# Altium integrated library Linear Technology Power Management Energy Harvesting.IntLib: 169 symbols (part 3 of 13)
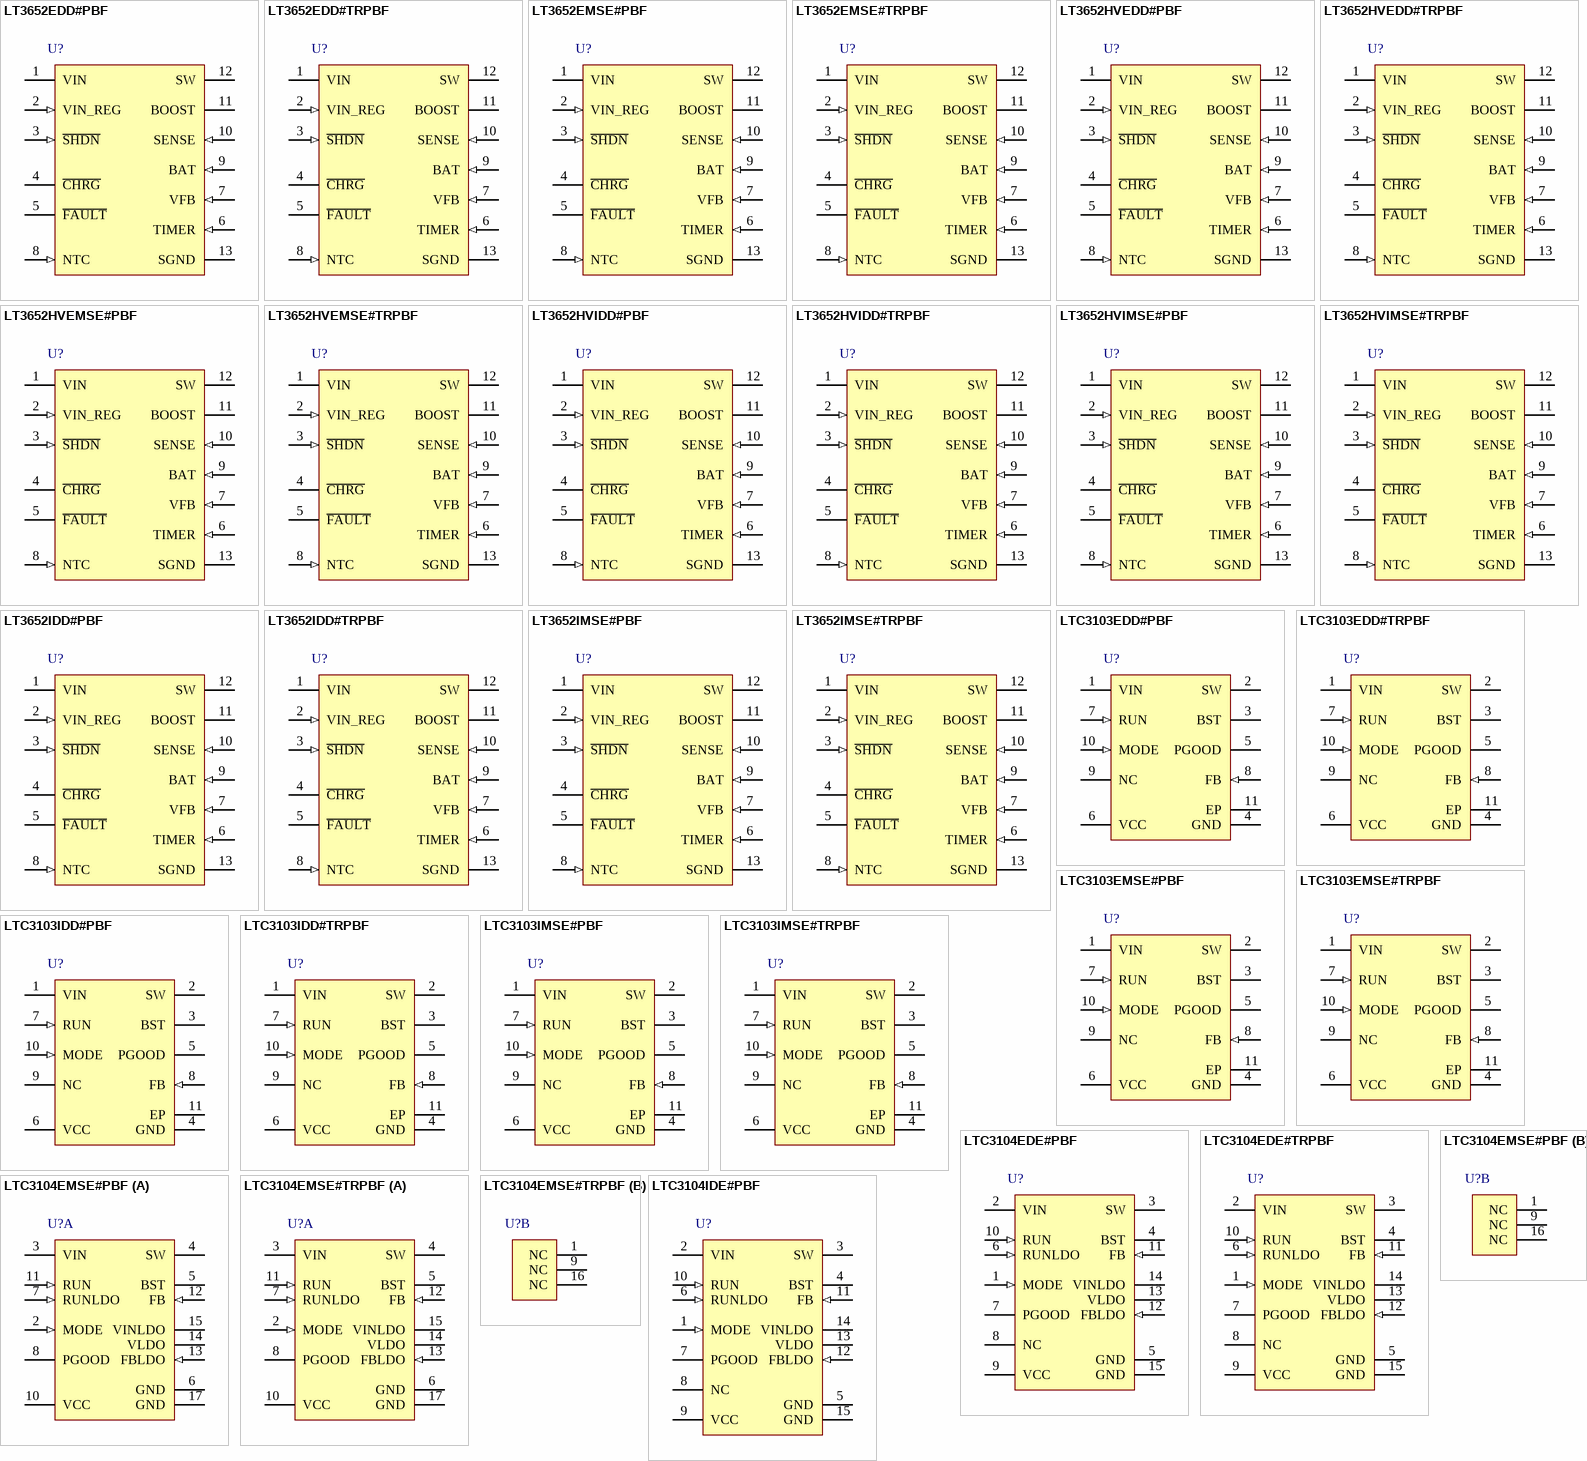
[diagram p7: symbols LT3652EDD#PBF to LTC3104IDE#PBF]

## LTC3104EDE#PBF
designator U?
2.6 uA Quiescent Current, 15 V, 300 mA Synchronous Step-Down DC/DC Converter and 10 mA LDO, 14-pin SON (DE-14), -40 to 125 degC, Pb-Free; Manufacturer: Linear Technology; PartNumber: LTC3104EDE#PBF; Number of Outputs: 2; Topology: Buck, LDO; Vin Max(V): 15; Vin Min(V): 2.5; Vout Max(V): 13.8; PackageVersion: Rev. B, 06/2010; PackageReference: DE-14; PackageDescription: 14-Pin Plastic DFN, Body 4 x 3 mm, Pitch 0.5 mm; Supplier 1: Digi-Key; Supplier Part Number 1: LTC3104EDE#PBF-ND; Supplier 2: Newark; Supplier Part Number 2: 78T3149; RoHS: TRUE; Mounting Technology: Surface Mount; Code_JEDEC: MO-229; ComponentLink1Description: Manufacturer URL; ComponentLink1URL: http://www.linear.com/; ComponentLink2Description: Datasheet; ComponentLink2URL: http://cds.linear.com/docs/en/datasheet/3104f.pdf; ComponentLink3Description: Package Specification; ComponentLink3URL: http://www.linear.com/docs/en/packaging/DFN_14_05-08-1708.pdf
footprint LT-DE-14_V (SON, 14-Leads, Body 4x3mm, Pitch 0.5mm, Thermal Pad 3.3x1.7mm)
pins: 1 MODE (in) "MODE (Pin 1/Pin 2): Logic-Controlled Input to Select Mode of Operation. Forcing this pin high commands high efficiency automatic Burst Mode operation where the buck will automatically transition from PWM operation at heavy (See Datasheet)", 2 VIN (power) "VIN (Pin 2/Pin 3): Main Supply Pin. Decouple with a 10uF or larger ceramic capacitor. The capacitor should be as close to the part as possible.", 3 SW (power) "SW (Pin 3/Pin 4): Switch Pin Connects to the Inductor. This pin connects to the drains of the internal main and synchronous power MOSFET switches.", 4 BST "BST (Pin 4/Pin 5): Bootstrapped Floating Supply for High Side Gate Drive. Connect to SW through a 22nF (minimum) capacitor. The capacitor must be connected between BST and SW and be located as close as possible to the part (See Datasheet)", 5 GND (power) "GND (Pin 5/Pin 6): Power Ground.", 6 RUNLDO (in) "RUNLDO (Pin 6/Pin 7): Logic-Controlled LDO Enable Pin. This pin may be tied to VIN to enable the LDO.", 7 PGOOD (oc) "PGOOD (Pin 7/Pin 8): Open-drain output that is pulled to ground when the feedback voltage falls 10% (typical) below the regulation point, during a thermal shutdown event or if the converter is disabled. The PGOOD output is (See Datasheet)", 8 NC "NC (Pin 8/Pins 1, 9, 16): No Connect Pin(s) Must Be Tied to GND.", 9 VCC (power) "VCC (Pin 9/Pin 10): Internally Regulated Supply Rail. Internal power rail regulated off of VIN to power control circuitry. Decouple with a 1uF or larger ceramic capacitor placed as close to the part as possible.", 10 RUN (in) "RUN (Pin 10/Pin 11): Run Pin Comparator Input. A voltage greater than 0.84V will enable the IC. Tie this pin to VIN to enable the IC or connect to an external resistor divider from VIN to provide an accurate undervoltage (See Datasheet)", 11 FB (in) "FB (Pin 11/Pin 12): Feedback Input to Error Amplifier. The resistor divider connected to this pin sets the buck converter output voltage.", 12 FBLDO (in) "FBLDO (Pin 12/Pin 13): Feedback Input to the LDO Error Amplifier. The resistor divider on this pin sets the LDO output voltage.", 13 VLDO (power) "VLDO (Pin 13/Pin 14): LDO Regulator Output. Decouple with a 4.7uF or larger ceramic capacitor placed as close to the part as possible.", 14 VINLDO (power) "VINLDO (Pin 14/Pin 15): LDO Supply Pin (15V Maximum). Decouple with a 10uF or larger ceramic capacitor.", 15 GND (power) "GND (Exposed Pad Pin 15/Exposed Pad Pin 17): Backpad Ground Common. This pad must be soldered to the PC board and connected to the ground plane for optimal thermal performance."

## LTC3104EDE#TRPBF
designator U?
2.6 uA Quiescent Current, 15 V, 300 mA Synchronous Step-Down DC/DC Converter and 10 mA LDO, 14-pin SON (DE-14), -40 to 125 degC, Pb-Free, Tape and Reel; Manufacturer: Linear Technology; PartNumber: LTC3104EDE#TRPBF; Number of Outputs: 2; Topology: Buck, LDO; Vin Max(V): 15; Vin Min(V): 2.5; Vout Max(V): 13.8; PackageVersion: Rev. B, 06/2010; PackageReference: DE-14; PackageDescription: 14-Pin Plastic DFN, Body 4 x 3 mm, Pitch 0.5 mm; Supplier 1: Digi-Key; Supplier Part Number 1: LTC3104EDE#TRPBF-ND; Packing: Tape and Reel; RoHS: TRUE; Mounting Technology: Surface Mount; Code_JEDEC: MO-229; ComponentLink1Description: Manufacturer URL; ComponentLink1URL: http://www.linear.com/; ComponentLink2Description: Datasheet; ComponentLink2URL: http://cds.linear.com/docs/en/datasheet/3104f.pdf; ComponentLink3Description: Package Specification; ComponentLink3URL: http://www.linear.com/docs/en/packaging/DFN_14_05-08-1708.pdf
footprint LT-DE-14_V (SON, 14-Leads, Body 4x3mm, Pitch 0.5mm, Thermal Pad 3.3x1.7mm)
pins: 1 MODE (in) "MODE (Pin 1/Pin 2): Logic-Controlled Input to Select Mode of Operation. Forcing this pin high commands high efficiency automatic Burst Mode operation where the buck will automatically transition from PWM operation at heavy (See Datasheet)", 2 VIN (power) "VIN (Pin 2/Pin 3): Main Supply Pin. Decouple with a 10uF or larger ceramic capacitor. The capacitor should be as close to the part as possible.", 3 SW (power) "SW (Pin 3/Pin 4): Switch Pin Connects to the Inductor. This pin connects to the drains of the internal main and synchronous power MOSFET switches.", 4 BST "BST (Pin 4/Pin 5): Bootstrapped Floating Supply for High Side Gate Drive. Connect to SW through a 22nF (minimum) capacitor. The capacitor must be connected between BST and SW and be located as close as possible to the part (See Datasheet)", 5 GND (power) "GND (Pin 5/Pin 6): Power Ground.", 6 RUNLDO (in) "RUNLDO (Pin 6/Pin 7): Logic-Controlled LDO Enable Pin. This pin may be tied to VIN to enable the LDO.", 7 PGOOD (oc) "PGOOD (Pin 7/Pin 8): Open-drain output that is pulled to ground when the feedback voltage falls 10% (typical) below the regulation point, during a thermal shutdown event or if the converter is disabled. The PGOOD output is (See Datasheet)", 8 NC "NC (Pin 8/Pins 1, 9, 16): No Connect Pin(s) Must Be Tied to GND.", 9 VCC (power) "VCC (Pin 9/Pin 10): Internally Regulated Supply Rail. Internal power rail regulated off of VIN to power control circuitry. Decouple with a 1uF or larger ceramic capacitor placed as close to the part as possible.", 10 RUN (in) "RUN (Pin 10/Pin 11): Run Pin Comparator Input. A voltage greater than 0.84V will enable the IC. Tie this pin to VIN to enable the IC or connect to an external resistor divider from VIN to provide an accurate undervoltage (See Datasheet)", 11 FB (in) "FB (Pin 11/Pin 12): Feedback Input to Error Amplifier. The resistor divider connected to this pin sets the buck converter output voltage.", 12 FBLDO (in) "FBLDO (Pin 12/Pin 13): Feedback Input to the LDO Error Amplifier. The resistor divider on this pin sets the LDO output voltage.", 13 VLDO (power) "VLDO (Pin 13/Pin 14): LDO Regulator Output. Decouple with a 4.7uF or larger ceramic capacitor placed as close to the part as possible.", 14 VINLDO (power) "VINLDO (Pin 14/Pin 15): LDO Supply Pin (15V Maximum). Decouple with a 10uF or larger ceramic capacitor.", 15 GND (power) "GND (Exposed Pad Pin 15/Exposed Pad Pin 17): Backpad Ground Common. This pad must be soldered to the PC board and connected to the ground plane for optimal thermal performance."

## LTC3104EMSE#PBF
designator U?
2.6 uA Quiescent Current, 15 V, 300 mA Synchronous Step-Down DC/DC Converter and 10 mA LDO, 16-pin SOP (MSE-16-EDP), -40 to 125 degC, Pb-Free; Manufacturer: Linear Technology; PartNumber: LTC3104EMSE#PBF; Number of Outputs: 2; Topology: Buck, LDO; Vin Max(V): 15; Vin Min(V): 2.5; Vout Max(V): 13.8; PackageVersion: Rev. F, 05/2013; PackageReference: MSE-16; PackageDescription: 16-Pin Plastic MSOP, Exposed Die Pad, Body 4.039 x 3 mm, Pitch 0.5 mm; Supplier 1: Digi-Key; Supplier Part Number 1: LTC3104EMSE#PBF-ND; Supplier 2: Farnell; Supplier Part Number 2: 2097888; RoHS: TRUE; Mounting Technology: Surface Mount; ComponentLink1Description: Manufacturer URL; ComponentLink1URL: http://www.linear.com/; ComponentLink2Description: Datasheet; ComponentLink2URL: http://cds.linear.com/docs/en/datasheet/3104f.pdf; ComponentLink3Description: Package Specification; ComponentLink3URL: http://cds.linear.com/docs/en/packaging/05081667_F_MSE16.pdf
footprint LT-MSE-16-EDP_N (SOP, 16-Leads, Body 4.1x3.1mm, Pitch 0.5mm, Thermal Pad 2.95x1.76mm, IPC Medium Density)
footprint LT-MSE-16-EDP_L (SOP, 16-Leads, Body 4.1x3.1mm, Pitch 0.5mm, Thermal Pad 2.95x1.76mm, IPC High Density)
footprint LT-MSE-16-EDP_M (SOP, 16-Leads, Body 4.1x3.1mm, Pitch 0.5mm, Thermal Pad 2.95x1.76mm, IPC Low Density)
part A pins: 2 MODE (in) "MODE (Pin 1/Pin 2): Logic-Controlled Input to Select Mode of Operation. Forcing this pin high commands high efficiency automatic Burst Mode operation where the buck will automatically transition from PWM operation at heavy (See Datasheet)", 3 VIN (power) "VIN (Pin 2/Pin 3): Main Supply Pin. Decouple with a 10uF or larger ceramic capacitor. The capacitor should be as close to the part as possible.", 4 SW (power) "SW (Pin 3/Pin 4): Switch Pin Connects to the Inductor. This pin connects to the drains of the internal main and synchronous power MOSFET switches.", 5 BST "BST (Pin 4/Pin 5): Bootstrapped Floating Supply for High Side Gate Drive. Connect to SW through a 22nF (minimum) capacitor. The capacitor must be connected between BST and SW and be located as close as possible to the part (See Datasheet)", 6 GND (power) "GND (Pin 5/Pin 6): Power Ground.", 7 RUNLDO (in) "RUNLDO (Pin 6/Pin 7): Logic-Controlled LDO Enable Pin. This pin may be tied to VIN to enable the LDO.", 8 PGOOD (oc) "PGOOD (Pin 7/Pin 8): Open-drain output that is pulled to ground when the feedback voltage falls 10% (typical) below the regulation point, during a thermal shutdown event or if the converter is disabled. The PGOOD output is (See Datasheet)", 10 VCC (power) "VCC (Pin 9/Pin 10): Internally Regulated Supply Rail. Internal power rail regulated off of VIN to power control circuitry. Decouple with a 1uF or larger ceramic capacitor placed as close to the part as possible.", 11 RUN (in) "RUN (Pin 10/Pin 11): Run Pin Comparator Input. A voltage greater than 0.84V will enable the IC. Tie this pin to VIN to enable the IC or connect to an external resistor divider from VIN to provide an accurate undervoltage (See Datasheet)", 12 FB (in) "FB (Pin 11/Pin 12): Feedback Input to Error Amplifier. The resistor divider connected to this pin sets the buck converter output voltage.", 13 FBLDO (in) "FBLDO (Pin 12/Pin 13): Feedback Input to the LDO Error Amplifier. The resistor divider on this pin sets the LDO output voltage.", 14 VLDO (power) "VLDO (Pin 13/Pin 14): LDO Regulator Output. Decouple with a 4.7uF or larger ceramic capacitor placed as close to the part as possible.", 15 VINLDO (power) "VINLDO (Pin 14/Pin 15): LDO Supply Pin (15V Maximum). Decouple with a 10uF or larger ceramic capacitor.", 17 GND (power) "GND (Exposed Pad Pin 15/Exposed Pad Pin 17): Backpad Ground Common. This pad must be soldered to the PC board and connected to the ground plane for optimal thermal performance."
part B pins: 1 NC "NC (Pin 8/Pins 1, 9, 16): No Connect Pin(s) Must Be Tied to GND.", 9 NC "NC (Pin 8/Pins 1, 9, 16): No Connect Pin(s) Must Be Tied to GND.", 16 NC "NC (Pin 8/Pins 1, 9, 16): No Connect Pin(s) Must Be Tied to GND."

## LTC3104EMSE#TRPBF
designator U?
2.6 uA Quiescent Current, 15 V, 300 mA Synchronous Step-Down DC/DC Converter and 10 mA LDO, 16-pin SOP (MSE-16-EDP), -40 to 125 degC, Pb-Free, Tape and Reel; Manufacturer: Linear Technology; PartNumber: LTC3104EMSE#TRPBF; Number of Outputs: 2; Topology: Buck, LDO; Vin Max(V): 15; Vin Min(V): 2.5; Vout Max(V): 13.8; PackageVersion: Rev. F, 05/2013; PackageReference: MSE-16; PackageDescription: 16-Pin Plastic MSOP, Exposed Die Pad, Body 4.039 x 3 mm, Pitch 0.5 mm; Supplier 1: Digi-Key; Supplier Part Number 1: LTC3104EMSE#TRPBF-ND; Packing: Tape and Reel; RoHS: TRUE; Mounting Technology: Surface Mount; ComponentLink1Description: Manufacturer URL; ComponentLink1URL: http://www.linear.com/; ComponentLink2Description: Datasheet; ComponentLink2URL: http://cds.linear.com/docs/en/datasheet/3104f.pdf; ComponentLink3Description: Package Specification; ComponentLink3URL: http://cds.linear.com/docs/en/packaging/05081667_F_MSE16.pdf
footprint LT-MSE-16-EDP_N (SOP, 16-Leads, Body 4.1x3.1mm, Pitch 0.5mm, Thermal Pad 2.95x1.76mm, IPC Medium Density)
footprint LT-MSE-16-EDP_L (SOP, 16-Leads, Body 4.1x3.1mm, Pitch 0.5mm, Thermal Pad 2.95x1.76mm, IPC High Density)
footprint LT-MSE-16-EDP_M (SOP, 16-Leads, Body 4.1x3.1mm, Pitch 0.5mm, Thermal Pad 2.95x1.76mm, IPC Low Density)
part A pins: 2 MODE (in) "MODE (Pin 1/Pin 2): Logic-Controlled Input to Select Mode of Operation. Forcing this pin high commands high efficiency automatic Burst Mode operation where the buck will automatically transition from PWM operation at heavy (See Datasheet)", 3 VIN (power) "VIN (Pin 2/Pin 3): Main Supply Pin. Decouple with a 10uF or larger ceramic capacitor. The capacitor should be as close to the part as possible.", 4 SW (power) "SW (Pin 3/Pin 4): Switch Pin Connects to the Inductor. This pin connects to the drains of the internal main and synchronous power MOSFET switches.", 5 BST "BST (Pin 4/Pin 5): Bootstrapped Floating Supply for High Side Gate Drive. Connect to SW through a 22nF (minimum) capacitor. The capacitor must be connected between BST and SW and be located as close as possible to the part (See Datasheet)", 6 GND (power) "GND (Pin 5/Pin 6): Power Ground.", 7 RUNLDO (in) "RUNLDO (Pin 6/Pin 7): Logic-Controlled LDO Enable Pin. This pin may be tied to VIN to enable the LDO.", 8 PGOOD (oc) "PGOOD (Pin 7/Pin 8): Open-drain output that is pulled to ground when the feedback voltage falls 10% (typical) below the regulation point, during a thermal shutdown event or if the converter is disabled. The PGOOD output is (See Datasheet)", 10 VCC (power) "VCC (Pin 9/Pin 10): Internally Regulated Supply Rail. Internal power rail regulated off of VIN to power control circuitry. Decouple with a 1uF or larger ceramic capacitor placed as close to the part as possible.", 11 RUN (in) "RUN (Pin 10/Pin 11): Run Pin Comparator Input. A voltage greater than 0.84V will enable the IC. Tie this pin to VIN to enable the IC or connect to an external resistor divider from VIN to provide an accurate undervoltage (See Datasheet)", 12 FB (in) "FB (Pin 11/Pin 12): Feedback Input to Error Amplifier. The resistor divider connected to this pin sets the buck converter output voltage.", 13 FBLDO (in) "FBLDO (Pin 12/Pin 13): Feedback Input to the LDO Error Amplifier. The resistor divider on this pin sets the LDO output voltage.", 14 VLDO (power) "VLDO (Pin 13/Pin 14): LDO Regulator Output. Decouple with a 4.7uF or larger ceramic capacitor placed as close to the part as possible.", 15 VINLDO (power) "VINLDO (Pin 14/Pin 15): LDO Supply Pin (15V Maximum). Decouple with a 10uF or larger ceramic capacitor.", 17 GND (power) "GND (Exposed Pad Pin 15/Exposed Pad Pin 17): Backpad Ground Common. This pad must be soldered to the PC board and connected to the ground plane for optimal thermal performance."
part B pins: 1 NC "NC (Pin 8/Pins 1, 9, 16): No Connect Pin(s) Must Be Tied to GND.", 9 NC "NC (Pin 8/Pins 1, 9, 16): No Connect Pin(s) Must Be Tied to GND.", 16 NC "NC (Pin 8/Pins 1, 9, 16): No Connect Pin(s) Must Be Tied to GND."

## LTC3104IDE#PBF
designator U?
2.6 uA Quiescent Current, 15 V, 300 mA Synchronous Step-Down DC/DC Converter and 10 mA LDO, 14-pin SON (DE-14), -40 to 125 degC, Pb-Free; Manufacturer: Linear Technology; PartNumber: LTC3104IDE#PBF; Number of Outputs: 2; Topology: Buck, LDO; Vin Max(V): 15; Vin Min(V): 2.5; Vout Max(V): 13.8; PackageVersion: Rev. B, 06/2010; PackageReference: DE-14; PackageDescription: 14-Pin Plastic DFN, Body 4 x 3 mm, Pitch 0.5 mm; Supplier 1: Digi-Key; Supplier Part Number 1: LTC3104IDE#PBF-ND; Supplier 2: Newark; Supplier Part Number 2: 78T3153; RoHS: TRUE; Mounting Technology: Surface Mount; Code_JEDEC: MO-229; ComponentLink1Description: Manufacturer URL; ComponentLink1URL: http://www.linear.com/; ComponentLink2Description: Datasheet; ComponentLink2URL: http://cds.linear.com/docs/en/datasheet/3104f.pdf; ComponentLink3Description: Package Specification; ComponentLink3URL: http://www.linear.com/docs/en/packaging/DFN_14_05-08-1708.pdf
footprint LT-DE-14_V (SON, 14-Leads, Body 4x3mm, Pitch 0.5mm, Thermal Pad 3.3x1.7mm)
pins: 1 MODE (in) "MODE (Pin 1/Pin 2): Logic-Controlled Input to Select Mode of Operation. Forcing this pin high commands high efficiency automatic Burst Mode operation where the buck will automatically transition from PWM operation at heavy (See Datasheet)", 2 VIN (power) "VIN (Pin 2/Pin 3): Main Supply Pin. Decouple with a 10uF or larger ceramic capacitor. The capacitor should be as close to the part as possible.", 3 SW (power) "SW (Pin 3/Pin 4): Switch Pin Connects to the Inductor. This pin connects to the drains of the internal main and synchronous power MOSFET switches.", 4 BST "BST (Pin 4/Pin 5): Bootstrapped Floating Supply for High Side Gate Drive. Connect to SW through a 22nF (minimum) capacitor. The capacitor must be connected between BST and SW and be located as close as possible to the part (See Datasheet)", 5 GND (power) "GND (Pin 5/Pin 6): Power Ground.", 6 RUNLDO (in) "RUNLDO (Pin 6/Pin 7): Logic-Controlled LDO Enable Pin. This pin may be tied to VIN to enable the LDO.", 7 PGOOD (oc) "PGOOD (Pin 7/Pin 8): Open-drain output that is pulled to ground when the feedback voltage falls 10% (typical) below the regulation point, during a thermal shutdown event or if the converter is disabled. The PGOOD output is (See Datasheet)", 8 NC "NC (Pin 8/Pins 1, 9, 16): No Connect Pin(s) Must Be Tied to GND.", 9 VCC (power) "VCC (Pin 9/Pin 10): Internally Regulated Supply Rail. Internal power rail regulated off of VIN to power control circuitry. Decouple with a 1uF or larger ceramic capacitor placed as close to the part as possible.", 10 RUN (in) "RUN (Pin 10/Pin 11): Run Pin Comparator Input. A voltage greater than 0.84V will enable the IC. Tie this pin to VIN to enable the IC or connect to an external resistor divider from VIN to provide an accurate undervoltage (See Datasheet)", 11 FB (in) "FB (Pin 11/Pin 12): Feedback Input to Error Amplifier. The resistor divider connected to this pin sets the buck converter output voltage.", 12 FBLDO (in) "FBLDO (Pin 12/Pin 13): Feedback Input to the LDO Error Amplifier. The resistor divider on this pin sets the LDO output voltage.", 13 VLDO (power) "VLDO (Pin 13/Pin 14): LDO Regulator Output. Decouple with a 4.7uF or larger ceramic capacitor placed as close to the part as possible.", 14 VINLDO (power) "VINLDO (Pin 14/Pin 15): LDO Supply Pin (15V Maximum). Decouple with a 10uF or larger ceramic capacitor.", 15 GND (power) "GND (Exposed Pad Pin 15/Exposed Pad Pin 17): Backpad Ground Common. This pad must be soldered to the PC board and connected to the ground plane for optimal thermal performance."

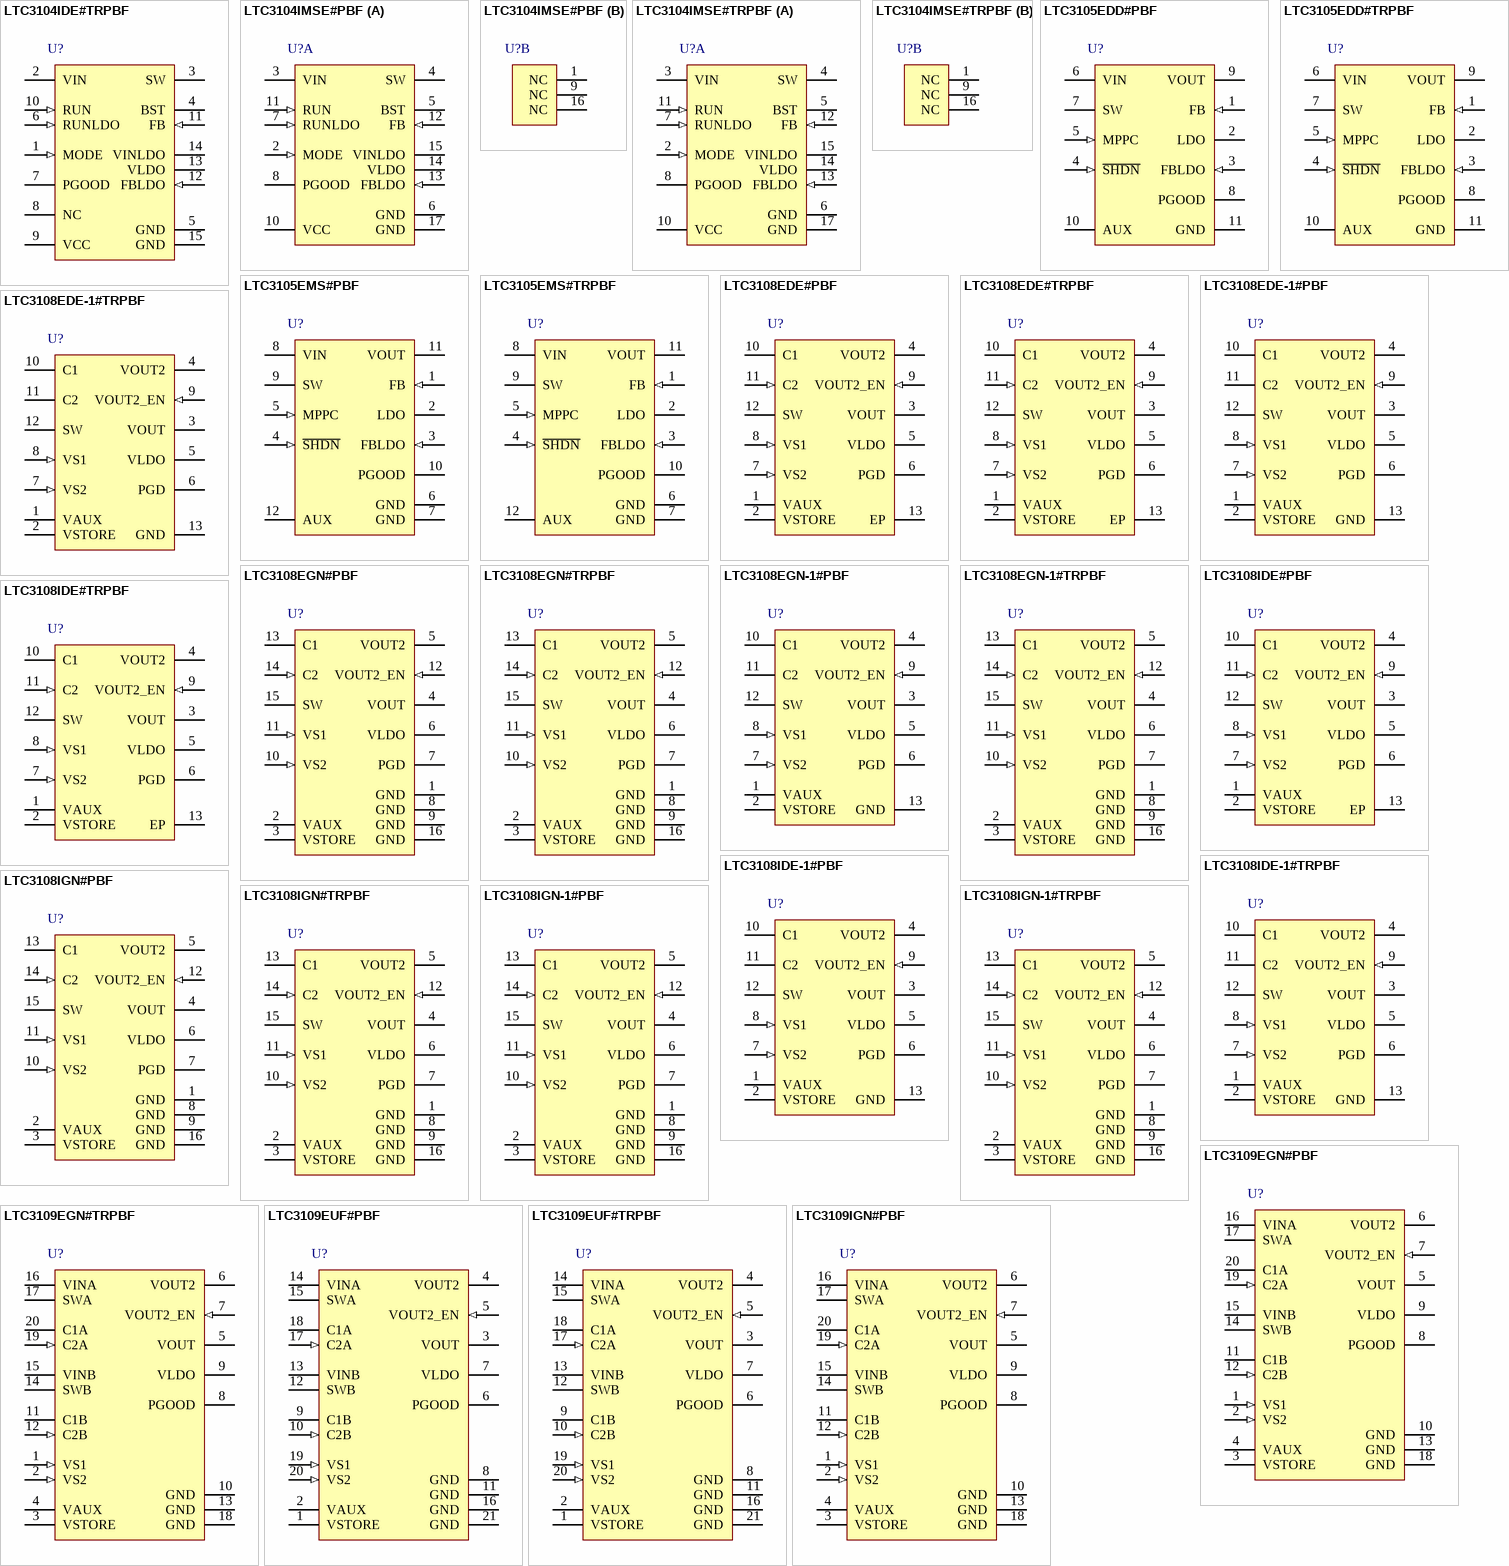
[diagram p1: symbols LTC3104IDE#TRPBF to LTC3109IGN#PBF]

## LTC3104IDE#TRPBF
designator U?
2.6 uA Quiescent Current, 15 V, 300 mA Synchronous Step-Down DC/DC Converter and 10 mA LDO, 14-pin SON (DE-14), -40 to 125 degC, Pb-Free, Tape and Reel; Manufacturer: Linear Technology; PartNumber: LTC3104IDE#TRPBF; Number of Outputs: 2; Topology: Buck, LDO; Vin Max(V): 15; Vin Min(V): 2.5; Vout Max(V): 13.8; PackageVersion: Rev. B, 06/2010; PackageReference: DE-14; PackageDescription: 14-Pin Plastic DFN, Body 4 x 3 mm, Pitch 0.5 mm; Supplier 1: Digi-Key; Supplier Part Number 1: LTC3104IDE#TRPBF-ND; Supplier 2: Newark; Supplier Part Number 2: 78T3154; Packing: Tape and Reel; RoHS: TRUE; Mounting Technology: Surface Mount; Code_JEDEC: MO-229; ComponentLink1Description: Manufacturer URL; ComponentLink1URL: http://www.linear.com/; ComponentLink2Description: Datasheet; ComponentLink2URL: http://cds.linear.com/docs/en/datasheet/3104f.pdf; ComponentLink3Description: Package Specification; ComponentLink3URL: http://www.linear.com/docs/en/packaging/DFN_14_05-08-1708.pdf
footprint LT-DE-14_V (SON, 14-Leads, Body 4x3mm, Pitch 0.5mm, Thermal Pad 3.3x1.7mm)
pins: 1 MODE (in) "MODE (Pin 1/Pin 2): Logic-Controlled Input to Select Mode of Operation. Forcing this pin high commands high efficiency automatic Burst Mode operation where the buck will automatically transition from PWM operation at heavy (See Datasheet)", 2 VIN (power) "VIN (Pin 2/Pin 3): Main Supply Pin. Decouple with a 10uF or larger ceramic capacitor. The capacitor should be as close to the part as possible.", 3 SW (power) "SW (Pin 3/Pin 4): Switch Pin Connects to the Inductor. This pin connects to the drains of the internal main and synchronous power MOSFET switches.", 4 BST "BST (Pin 4/Pin 5): Bootstrapped Floating Supply for High Side Gate Drive. Connect to SW through a 22nF (minimum) capacitor. The capacitor must be connected between BST and SW and be located as close as possible to the part (See Datasheet)", 5 GND (power) "GND (Pin 5/Pin 6): Power Ground.", 6 RUNLDO (in) "RUNLDO (Pin 6/Pin 7): Logic-Controlled LDO Enable Pin. This pin may be tied to VIN to enable the LDO.", 7 PGOOD (oc) "PGOOD (Pin 7/Pin 8): Open-drain output that is pulled to ground when the feedback voltage falls 10% (typical) below the regulation point, during a thermal shutdown event or if the converter is disabled. The PGOOD output is (See Datasheet)", 8 NC "NC (Pin 8/Pins 1, 9, 16): No Connect Pin(s) Must Be Tied to GND.", 9 VCC (power) "VCC (Pin 9/Pin 10): Internally Regulated Supply Rail. Internal power rail regulated off of VIN to power control circuitry. Decouple with a 1uF or larger ceramic capacitor placed as close to the part as possible.", 10 RUN (in) "RUN (Pin 10/Pin 11): Run Pin Comparator Input. A voltage greater than 0.84V will enable the IC. Tie this pin to VIN to enable the IC or connect to an external resistor divider from VIN to provide an accurate undervoltage (See Datasheet)", 11 FB (in) "FB (Pin 11/Pin 12): Feedback Input to Error Amplifier. The resistor divider connected to this pin sets the buck converter output voltage.", 12 FBLDO (in) "FBLDO (Pin 12/Pin 13): Feedback Input to the LDO Error Amplifier. The resistor divider on this pin sets the LDO output voltage.", 13 VLDO (power) "VLDO (Pin 13/Pin 14): LDO Regulator Output. Decouple with a 4.7uF or larger ceramic capacitor placed as close to the part as possible.", 14 VINLDO (power) "VINLDO (Pin 14/Pin 15): LDO Supply Pin (15V Maximum). Decouple with a 10uF or larger ceramic capacitor.", 15 GND (power) "GND (Exposed Pad Pin 15/Exposed Pad Pin 17): Backpad Ground Common. This pad must be soldered to the PC board and connected to the ground plane for optimal thermal performance."

## LTC3104IMSE#PBF
designator U?
2.6 uA Quiescent Current, 15 V, 300 mA Synchronous Step-Down DC/DC Converter and 10 mA LDO, 16-pin SOP (MSE-16-EDP), -40 to 125 degC, Pb-Free; Manufacturer: Linear Technology; PartNumber: LTC3104IMSE#PBF; Number of Outputs: 2; Topology: Buck, LDO; Vin Max(V): 15; Vin Min(V): 2.5; Vout Max(V): 13.8; PackageVersion: Rev. F, 05/2013; PackageReference: MSE-16; PackageDescription: 16-Pin Plastic MSOP, Exposed Die Pad, Body 4.039 x 3 mm, Pitch 0.5 mm; Supplier 1: Digi-Key; Supplier Part Number 1: LTC3104IMSE#PBF-ND; RoHS: TRUE; Mounting Technology: Surface Mount; ComponentLink1Description: Manufacturer URL; ComponentLink1URL: http://www.linear.com/; ComponentLink2Description: Datasheet; ComponentLink2URL: http://cds.linear.com/docs/en/datasheet/3104f.pdf; ComponentLink3Description: Package Specification; ComponentLink3URL: http://cds.linear.com/docs/en/packaging/05081667_F_MSE16.pdf
footprint LT-MSE-16-EDP_N (SOP, 16-Leads, Body 4.1x3.1mm, Pitch 0.5mm, Thermal Pad 2.95x1.76mm, IPC Medium Density)
footprint LT-MSE-16-EDP_L (SOP, 16-Leads, Body 4.1x3.1mm, Pitch 0.5mm, Thermal Pad 2.95x1.76mm, IPC High Density)
footprint LT-MSE-16-EDP_M (SOP, 16-Leads, Body 4.1x3.1mm, Pitch 0.5mm, Thermal Pad 2.95x1.76mm, IPC Low Density)
part A pins: 2 MODE (in) "MODE (Pin 1/Pin 2): Logic-Controlled Input to Select Mode of Operation. Forcing this pin high commands high efficiency automatic Burst Mode operation where the buck will automatically transition from PWM operation at heavy (See Datasheet)", 3 VIN (power) "VIN (Pin 2/Pin 3): Main Supply Pin. Decouple with a 10uF or larger ceramic capacitor. The capacitor should be as close to the part as possible.", 4 SW (power) "SW (Pin 3/Pin 4): Switch Pin Connects to the Inductor. This pin connects to the drains of the internal main and synchronous power MOSFET switches.", 5 BST "BST (Pin 4/Pin 5): Bootstrapped Floating Supply for High Side Gate Drive. Connect to SW through a 22nF (minimum) capacitor. The capacitor must be connected between BST and SW and be located as close as possible to the part (See Datasheet)", 6 GND (power) "GND (Pin 5/Pin 6): Power Ground.", 7 RUNLDO (in) "RUNLDO (Pin 6/Pin 7): Logic-Controlled LDO Enable Pin. This pin may be tied to VIN to enable the LDO.", 8 PGOOD (oc) "PGOOD (Pin 7/Pin 8): Open-drain output that is pulled to ground when the feedback voltage falls 10% (typical) below the regulation point, during a thermal shutdown event or if the converter is disabled. The PGOOD output is (See Datasheet)", 10 VCC (power) "VCC (Pin 9/Pin 10): Internally Regulated Supply Rail. Internal power rail regulated off of VIN to power control circuitry. Decouple with a 1uF or larger ceramic capacitor placed as close to the part as possible.", 11 RUN (in) "RUN (Pin 10/Pin 11): Run Pin Comparator Input. A voltage greater than 0.84V will enable the IC. Tie this pin to VIN to enable the IC or connect to an external resistor divider from VIN to provide an accurate undervoltage (See Datasheet)", 12 FB (in) "FB (Pin 11/Pin 12): Feedback Input to Error Amplifier. The resistor divider connected to this pin sets the buck converter output voltage.", 13 FBLDO (in) "FBLDO (Pin 12/Pin 13): Feedback Input to the LDO Error Amplifier. The resistor divider on this pin sets the LDO output voltage.", 14 VLDO (power) "VLDO (Pin 13/Pin 14): LDO Regulator Output. Decouple with a 4.7uF or larger ceramic capacitor placed as close to the part as possible.", 15 VINLDO (power) "VINLDO (Pin 14/Pin 15): LDO Supply Pin (15V Maximum). Decouple with a 10uF or larger ceramic capacitor.", 17 GND (power) "GND (Exposed Pad Pin 15/Exposed Pad Pin 17): Backpad Ground Common. This pad must be soldered to the PC board and connected to the ground plane for optimal thermal performance."
part B pins: 1 NC "NC (Pin 8/Pins 1, 9, 16): No Connect Pin(s) Must Be Tied to GND.", 9 NC "NC (Pin 8/Pins 1, 9, 16): No Connect Pin(s) Must Be Tied to GND.", 16 NC "NC (Pin 8/Pins 1, 9, 16): No Connect Pin(s) Must Be Tied to GND."

## LTC3104IMSE#TRPBF
designator U?
2.6 uA Quiescent Current, 15 V, 300 mA Synchronous Step-Down DC/DC Converter and 10 mA LDO, 16-pin SOP (MSE-16-EDP), -40 to 125 degC, Pb-Free, Tape and Reel; Manufacturer: Linear Technology; PartNumber: LTC3104IMSE#TRPBF; Number of Outputs: 2; Topology: Buck, LDO; Vin Max(V): 15; Vin Min(V): 2.5; Vout Max(V): 13.8; PackageVersion: Rev. F, 05/2013; PackageReference: MSE-16; PackageDescription: 16-Pin Plastic MSOP, Exposed Die Pad, Body 4.039 x 3 mm, Pitch 0.5 mm; Supplier 1: Digi-Key; Supplier Part Number 1: LTC3104IMSE#TRPBF-ND; Packing: Tape and Reel; RoHS: TRUE; Mounting Technology: Surface Mount; ComponentLink1Description: Manufacturer URL; ComponentLink1URL: http://www.linear.com/; ComponentLink2Description: Datasheet; ComponentLink2URL: http://cds.linear.com/docs/en/datasheet/3104f.pdf; ComponentLink3Description: Package Specification; ComponentLink3URL: http://cds.linear.com/docs/en/packaging/05081667_F_MSE16.pdf
footprint LT-MSE-16-EDP_N (SOP, 16-Leads, Body 4.1x3.1mm, Pitch 0.5mm, Thermal Pad 2.95x1.76mm, IPC Medium Density)
footprint LT-MSE-16-EDP_L (SOP, 16-Leads, Body 4.1x3.1mm, Pitch 0.5mm, Thermal Pad 2.95x1.76mm, IPC High Density)
footprint LT-MSE-16-EDP_M (SOP, 16-Leads, Body 4.1x3.1mm, Pitch 0.5mm, Thermal Pad 2.95x1.76mm, IPC Low Density)
part A pins: 2 MODE (in) "MODE (Pin 1/Pin 2): Logic-Controlled Input to Select Mode of Operation. Forcing this pin high commands high efficiency automatic Burst Mode operation where the buck will automatically transition from PWM operation at heavy (See Datasheet)", 3 VIN (power) "VIN (Pin 2/Pin 3): Main Supply Pin. Decouple with a 10uF or larger ceramic capacitor. The capacitor should be as close to the part as possible.", 4 SW (power) "SW (Pin 3/Pin 4): Switch Pin Connects to the Inductor. This pin connects to the drains of the internal main and synchronous power MOSFET switches.", 5 BST "BST (Pin 4/Pin 5): Bootstrapped Floating Supply for High Side Gate Drive. Connect to SW through a 22nF (minimum) capacitor. The capacitor must be connected between BST and SW and be located as close as possible to the part (See Datasheet)", 6 GND (power) "GND (Pin 5/Pin 6): Power Ground.", 7 RUNLDO (in) "RUNLDO (Pin 6/Pin 7): Logic-Controlled LDO Enable Pin. This pin may be tied to VIN to enable the LDO.", 8 PGOOD (oc) "PGOOD (Pin 7/Pin 8): Open-drain output that is pulled to ground when the feedback voltage falls 10% (typical) below the regulation point, during a thermal shutdown event or if the converter is disabled. The PGOOD output is (See Datasheet)", 10 VCC (power) "VCC (Pin 9/Pin 10): Internally Regulated Supply Rail. Internal power rail regulated off of VIN to power control circuitry. Decouple with a 1uF or larger ceramic capacitor placed as close to the part as possible.", 11 RUN (in) "RUN (Pin 10/Pin 11): Run Pin Comparator Input. A voltage greater than 0.84V will enable the IC. Tie this pin to VIN to enable the IC or connect to an external resistor divider from VIN to provide an accurate undervoltage (See Datasheet)", 12 FB (in) "FB (Pin 11/Pin 12): Feedback Input to Error Amplifier. The resistor divider connected to this pin sets the buck converter output voltage.", 13 FBLDO (in) "FBLDO (Pin 12/Pin 13): Feedback Input to the LDO Error Amplifier. The resistor divider on this pin sets the LDO output voltage.", 14 VLDO (power) "VLDO (Pin 13/Pin 14): LDO Regulator Output. Decouple with a 4.7uF or larger ceramic capacitor placed as close to the part as possible.", 15 VINLDO (power) "VINLDO (Pin 14/Pin 15): LDO Supply Pin (15V Maximum). Decouple with a 10uF or larger ceramic capacitor.", 17 GND (power) "GND (Exposed Pad Pin 15/Exposed Pad Pin 17): Backpad Ground Common. This pad must be soldered to the PC board and connected to the ground plane for optimal thermal performance."
part B pins: 1 NC "NC (Pin 8/Pins 1, 9, 16): No Connect Pin(s) Must Be Tied to GND.", 9 NC "NC (Pin 8/Pins 1, 9, 16): No Connect Pin(s) Must Be Tied to GND.", 16 NC "NC (Pin 8/Pins 1, 9, 16): No Connect Pin(s) Must Be Tied to GND."

## LTC3105EDD#PBF
designator U?
400 mA Step-Up DC/DC Converter with Maximum Power Point Control and 250 mV Start-Up, 10-pin SON (DD-10), -40 to 85 degC, Pb-Free; Manufacturer: Linear Technology; PartNumber: LTC3105EDD#PBF; Energy Source: Solar; Number of Outputs: 1; Topology: Boost; Vin Max(V): 5; Vin Min(V): 0.225; Vout Max(V): 5.25; DatasheetVersion: Rev. A; PackageVersion: Rev. C, 06/2010; PackageReference: DD-10; PackageDescription: 10-Pin Plastic DFN, Body 3 x 3 mm, Pitch 0.5 mm; Supplier 1: Digi-Key; Supplier Part Number 1: LTC3105EDD#PBF-ND; Supplier 2: Farnell; Supplier Part Number 2: 1898600; Supplier 3: Farnell; Supplier Part Number 3: 1871435; Supplier 4: Newark; Supplier Part Number 4: 27T5809; RoHS: TRUE; Mounting Technology: Surface Mount; Code_JEDEC: MO-229; ComponentLink1Description: Manufacturer URL; ComponentLink1URL: http://www.linear.com/; ComponentLink2Description: Datasheet; ComponentLink2URL: http://cds.linear.com/docs/en/datasheet/3105fa.pdf; ComponentLink3Description: Package Specification; ComponentLink3URL: http://cds.linear.com/docs/en/packaging/DFN_10_05-08-1699.pdf
footprint LT-DD-10_V (SON, 10-Leads, Body 3x3mm, Pitch 0.5mm, Thermal Pad 2.38x1.65mm)
pins: 1 FB (in) "Step-Up Converter Feedback Input. Connect the VOUT resistor divider tap to this input. The output voltage can be adjusted between 1.5V and 5.25V.", 2 LDO (power) "LDO Regulator Output. Connect a 4.7uF or larger capacitor between LDO and GND.", 3 FBLDO (in) "LDO Feedback Input. Connect the LDO resistive divider tab to this input. Alternatively, connecting FBLDO directly to GND will configure the LDO output voltage to be internally set at 2.2V (nominal).", 4 ~{SHDN} (in) "Logic Controlled Shutdown Input. With S\H\D\N\ open, the converter is enabled by an internal 2Mohm pull-up resistor. The S\H\D\N\ pin should be driven with an open-drain or open-collector pull-down and floated until the (See Datasheet)", 5 MPPC (in) "Set Point Input for Maximum Power Point Control. Connect a resistor from MPPC to GND to program the activation point for the MPPC loop. To disable the MPPC circuit, connect MPPC directly to GND.", 6 VIN (power) "Input Supply. Connect a decoupling capacitor between this pin and GND. The PCB trace length from the VIN pin to the decoupling capacitor should be as short and wide as possible. When used with high impedance sources such as (See Datasheet)", 7 SW (power) "Switch Pin. Connect an inductor between SW and VIN. PCB trace lengths should be as short as possible to reduce EMI. While the converter is sleeping or is in shutdown, the internal antiringing switch connects the SW pin to (See Datasheet)", 8 PGOOD (oc) "Power Good Indicator. This is an open-drain output. The pull-down is disabled when VOUT has achieved the voltage defined by the feedback divider on the FB pin. The pull-down is also disabled while the IC is in shutdown or (See Datasheet)", 9 VOUT (power) "Step-Up Converter Output. This is the drain connection of the main output internal synchronous rectifier. A 10uF or larger capacitor must be connected between this pin and GND. The PCB trace length from the VOUT pin to the (See Datasheet)", 10 AUX (power) "Auxiliary Voltage. Connect a 1uF capacitor between this pin and GND. This pin is used by the start-up circuitry to generate a voltage rail to power internal circuitry until the main output reaches regulation. AUX and VOUT (See Datasheet)", 11 GND (power) "EXPOSED PAD (PIN 11) IS GND, MUST BE SOLDERED TO PCB"

## LTC3105EDD#TRPBF
designator U?
400 mA Step-Up DC/DC Converter with Maximum Power Point Control and 250 mV Start-Up, 10-pin SON (DD-10), -40 to 85 degC, Pb-Free, Tape and Reel; Manufacturer: Linear Technology; PartNumber: LTC3105EDD#TRPBF; Energy Source: Solar; Number of Outputs: 1; Topology: Boost; Vin Max(V): 5; Vin Min(V): 0.225; Vout Max(V): 5.25; DatasheetVersion: Rev. A; PackageVersion: Rev. C, 06/2010; PackageReference: DD-10; PackageDescription: 10-Pin Plastic DFN, Body 3 x 3 mm, Pitch 0.5 mm; Supplier 1: Digi-Key; Supplier Part Number 1: LTC3105EDD#TRPBF-ND; Supplier 2: Newark; Supplier Part Number 2: 27T5810; Packing: Tape and Reel; RoHS: TRUE; Mounting Technology: Surface Mount; Code_JEDEC: MO-229; ComponentLink1Description: Manufacturer URL; ComponentLink1URL: http://www.linear.com/; ComponentLink2Description: Datasheet; ComponentLink2URL: http://cds.linear.com/docs/en/datasheet/3105fa.pdf; ComponentLink3Description: Package Specification; ComponentLink3URL: http://cds.linear.com/docs/en/packaging/DFN_10_05-08-1699.pdf
footprint LT-DD-10_V (SON, 10-Leads, Body 3x3mm, Pitch 0.5mm, Thermal Pad 2.38x1.65mm)
pins: 1 FB (in) "Step-Up Converter Feedback Input. Connect the VOUT resistor divider tap to this input. The output voltage can be adjusted between 1.5V and 5.25V.", 2 LDO (power) "LDO Regulator Output. Connect a 4.7uF or larger capacitor between LDO and GND.", 3 FBLDO (in) "LDO Feedback Input. Connect the LDO resistive divider tab to this input. Alternatively, connecting FBLDO directly to GND will configure the LDO output voltage to be internally set at 2.2V (nominal).", 4 ~{SHDN} (in) "Logic Controlled Shutdown Input. With S\H\D\N\ open, the converter is enabled by an internal 2Mohm pull-up resistor. The S\H\D\N\ pin should be driven with an open-drain or open-collector pull-down and floated until the (See Datasheet)", 5 MPPC (in) "Set Point Input for Maximum Power Point Control. Connect a resistor from MPPC to GND to program the activation point for the MPPC loop. To disable the MPPC circuit, connect MPPC directly to GND.", 6 VIN (power) "Input Supply. Connect a decoupling capacitor between this pin and GND. The PCB trace length from the VIN pin to the decoupling capacitor should be as short and wide as possible. When used with high impedance sources such as (See Datasheet)", 7 SW (power) "Switch Pin. Connect an inductor between SW and VIN. PCB trace lengths should be as short as possible to reduce EMI. While the converter is sleeping or is in shutdown, the internal antiringing switch connects the SW pin to (See Datasheet)", 8 PGOOD (oc) "Power Good Indicator. This is an open-drain output. The pull-down is disabled when VOUT has achieved the voltage defined by the feedback divider on the FB pin. The pull-down is also disabled while the IC is in shutdown or (See Datasheet)", 9 VOUT (power) "Step-Up Converter Output. This is the drain connection of the main output internal synchronous rectifier. A 10uF or larger capacitor must be connected between this pin and GND. The PCB trace length from the VOUT pin to the (See Datasheet)", 10 AUX (power) "Auxiliary Voltage. Connect a 1uF capacitor between this pin and GND. This pin is used by the start-up circuitry to generate a voltage rail to power internal circuitry until the main output reaches regulation. AUX and VOUT (See Datasheet)", 11 GND (power) "EXPOSED PAD (PIN 11) IS GND, MUST BE SOLDERED TO PCB"

## LTC3105EMS#PBF
designator U?
400 mA Step-Up DC/DC Converter with Maximum Power Point Control and 250 mV Start-Up, 12-pin SOP (MS-12), -40 to 85 degC, Pb-Free; Manufacturer: Linear Technology; PartNumber: LTC3105EMS#PBF; Energy Source: Solar; Number of Outputs: 1; Topology: Boost; Vin Max(V): 5; Vin Min(V): 0.225; Vout Max(V): 5.25; DatasheetVersion: Rev. A; PackageVersion: Rev. A, 05/2013; PackageReference: MS-12; PackageDescription: 12-Pin Plastic MSOP, Body 4.039 x 3 mm, Pitch 0.65 mm; Supplier 1: Digi-Key; Supplier Part Number 1: LTC3105EMS#PBF-ND; Supplier 2: Farnell; Supplier Part Number 2: 1898601; Supplier 3: Farnell; Supplier Part Number 3: 1871436; Supplier 4: Newark; Supplier Part Number 4: 27T5811; RoHS: TRUE; Mounting Technology: Surface Mount; ComponentLink1Description: Manufacturer URL; ComponentLink1URL: http://www.linear.com/; ComponentLink2Description: Datasheet; ComponentLink2URL: http://cds.linear.com/docs/en/datasheet/3105fa.pdf; ComponentLink3Description: Package Specification; ComponentLink3URL: http://cds.linear.com/docs/en/packaging/05081668_A_MS12.pdf
footprint LT-MS-12_N (SOP, 12-Leads, Body 4.1x3.1mm, Pitch 0.65mm, IPC Medium Density)
footprint LT-MS-12_L (SOP, 12-Leads, Body 4.1x3.1mm, Pitch 0.65mm, IPC High Density)
footprint LT-MS-12_M (SOP, 12-Leads, Body 4.1x3.1mm, Pitch 0.65mm, IPC Low Density)
pins: 1 FB (in) "Step-Up Converter Feedback Input. Connect the VOUT resistor divider tap to this input. The output voltage can be adjusted between 1.5V and 5.25V.", 2 LDO (power) "LDO Regulator Output. Connect a 4.7uF or larger capacitor between LDO and GND.", 3 FBLDO (in) "LDO Feedback Input. Connect the LDO resistive divider tab to this input. Alternatively, connecting FBLDO directly to GND will configure the LDO output voltage to be internally set at 2.2V (nominal).", 4 ~{SHDN} (in) "Logic Controlled Shutdown Input. With S\H\D\N\ open, the converter is enabled by an internal 2 Mohm pull-up resistor. The S\H\D\N\ pin should be driven with an open-drain or open-collector pull-down and floated until the (See Datasheet)", 5 MPPC (in) "Set Point Input for Maximum Power Point Control. Connect a resistor from MPPC to GND to program the activation point for the MPPC loop. To disable the MPPC circuit, connect MPPC directly to GND.", 6 GND (power) "Small Signal and Power Ground for the IC. The GND connections should be soldered to the PCB ground using the lowest impedance path possible.", 7 GND (power) "Small Signal and Power Ground for the IC. The GND connections should be soldered to the PCB ground using the lowest impedance path possible.", 8 VIN (power) "Input Supply. Connect a decoupling capacitor between this pin and GND. The PCB trace length from the VIN pin to the decoupling capacitor should be as short and wide as possible. When used with high impedance sources such as (See Datasheet)", 9 SW (power) "Switch Pin. Connect an inductor between SW and VIN. PCB trace lengths should be as short as possible to reduce EMI. While the converter is sleeping or is in shutdown, the internal antiringing switch connects the SW pin to (See Datasheet)", 10 PGOOD (oc) "Power Good Indicator. This is an open-drain output. The pull-down is disabled when VOUT has achieved the voltage defined by the feedback divider on the FB pin. The pull-down is also disabled while the IC is in shutdown or (See Datasheet)", 11 VOUT (power) "Step-Up Converter Output. This is the drain connection of the main output internal synchronous rectifier. A 10uF or larger capacitor must be connected between this pin and GND. The PCB trace length from the VOUT pin to the (See Datasheet)", 12 AUX (power) "Auxiliary Voltage. Connect a 1uF capacitor between this pin and GND. This pin is used by the start-up circuitry to generate a voltage rail to power internal circuitry until the main output reaches regulation. AUX and VOUT (See Datasheet)"

## LTC3105EMS#TRPBF
designator U?
400 mA Step-Up DC/DC Converter with Maximum Power Point Control and 250 mV Start-Up, 12-pin SOP (MS-12), -40 to 85 degC, Pb-Free, Tape and Reel; Manufacturer: Linear Technology; PartNumber: LTC3105EMS#TRPBF; Energy Source: Solar; Number of Outputs: 1; Topology: Boost; Vin Max(V): 5; Vin Min(V): 0.225; Vout Max(V): 5.25; DatasheetVersion: Rev. A; PackageVersion: Rev. A, 05/2013; PackageReference: MS-12; PackageDescription: 12-Pin Plastic MSOP, Body 4.039 x 3 mm, Pitch 0.65 mm; Supplier 1: Digi-Key; Supplier Part Number 1: LTC3105EMS#TRPBF-ND; Packing: Tape and Reel; RoHS: TRUE; Mounting Technology: Surface Mount; ComponentLink1Description: Manufacturer URL; ComponentLink1URL: http://www.linear.com/; ComponentLink2Description: Datasheet; ComponentLink2URL: http://cds.linear.com/docs/en/datasheet/3105fa.pdf; ComponentLink3Description: Package Specification; ComponentLink3URL: http://cds.linear.com/docs/en/packaging/05081668_A_MS12.pdf
footprint LT-MS-12_N (SOP, 12-Leads, Body 4.1x3.1mm, Pitch 0.65mm, IPC Medium Density)
footprint LT-MS-12_L (SOP, 12-Leads, Body 4.1x3.1mm, Pitch 0.65mm, IPC High Density)
footprint LT-MS-12_M (SOP, 12-Leads, Body 4.1x3.1mm, Pitch 0.65mm, IPC Low Density)
pins: 1 FB (in) "Step-Up Converter Feedback Input. Connect the VOUT resistor divider tap to this input. The output voltage can be adjusted between 1.5V and 5.25V.", 2 LDO (power) "LDO Regulator Output. Connect a 4.7uF or larger capacitor between LDO and GND.", 3 FBLDO (in) "LDO Feedback Input. Connect the LDO resistive divider tab to this input. Alternatively, connecting FBLDO directly to GND will configure the LDO output voltage to be internally set at 2.2V (nominal).", 4 ~{SHDN} (in) "Logic Controlled Shutdown Input. With S\H\D\N\ open, the converter is enabled by an internal 2 Mohm pull-up resistor. The S\H\D\N\ pin should be driven with an open-drain or open-collector pull-down and floated until the (See Datasheet)", 5 MPPC (in) "Set Point Input for Maximum Power Point Control. Connect a resistor from MPPC to GND to program the activation point for the MPPC loop. To disable the MPPC circuit, connect MPPC directly to GND.", 6 GND (power) "Small Signal and Power Ground for the IC. The GND connections should be soldered to the PCB ground using the lowest impedance path possible.", 7 GND (power) "Small Signal and Power Ground for the IC. The GND connections should be soldered to the PCB ground using the lowest impedance path possible.", 8 VIN (power) "Input Supply. Connect a decoupling capacitor between this pin and GND. The PCB trace length from the VIN pin to the decoupling capacitor should be as short and wide as possible. When used with high impedance sources such as (See Datasheet)", 9 SW (power) "Switch Pin. Connect an inductor between SW and VIN. PCB trace lengths should be as short as possible to reduce EMI. While the converter is sleeping or is in shutdown, the internal antiringing switch connects the SW pin to (See Datasheet)", 10 PGOOD (oc) "Power Good Indicator. This is an open-drain output. The pull-down is disabled when VOUT has achieved the voltage defined by the feedback divider on the FB pin. The pull-down is also disabled while the IC is in shutdown or (See Datasheet)", 11 VOUT (power) "Step-Up Converter Output. This is the drain connection of the main output internal synchronous rectifier. A 10uF or larger capacitor must be connected between this pin and GND. The PCB trace length from the VOUT pin to the (See Datasheet)", 12 AUX (power) "Auxiliary Voltage. Connect a 1uF capacitor between this pin and GND. This pin is used by the start-up circuitry to generate a voltage rail to power internal circuitry until the main output reaches regulation. AUX and VOUT (See Datasheet)"

## LTC3108EDE#PBF
designator U?
Ultralow Voltage Step-Up Converter and Power Manager, 12-pin SON (DE-12), -40 to 125 degC, Pb-Free; Manufacturer: Linear Technology; PartNumber: LTC3108EDE#PBF; Energy Source: Thermoelectric; Number of Outputs: 3; Topology: Boost, LDO; Vin Max(V): 0.5; Vin Min(V): 0.02; Vout Max(V): 5; DatasheetVersion: Rev. B; PackageReference: DE-12; PackageDescription: 12-Pin Plastic DFN, Body 4 x 3 mm, Pitch 0.5 mm; Supplier 1: Digi-Key; Supplier Part Number 1: LTC3108EDE#PBF-ND; Supplier 2: Farnell; Supplier Part Number 2: 1839132; Supplier 3: Newark; Supplier Part Number 3: 67R4277; RoHS: TRUE; Mounting Technology: Surface Mount; Code_JEDEC: MO-229; ComponentLink1Description: Manufacturer URL; ComponentLink1URL: http://www.linear.com/; ComponentLink2Description: Datasheet; ComponentLink2URL: http://cds.linear.com/docs/en/datasheet/3108fb.pdf; ComponentLink3Description: Package Specification; ComponentLink3URL: http://cds.linear.com/docs/en/datasheet/3473f.pdf
footprint LT-DE-12-05-08-1708_V (SON, 12-Leads, Body 4x3mm, Pitch 0.5mm, Thermal Pad 3.3x1.7mm)
pins: 1 VAUX (power) "Output of the Internal Rectifier Circuit and VCC for the IC. Bypass VAUX with at least 1uF of capacitance. An active shunt regulator clamps VAUX to 5.25V (typical).", 2 VSTORE (power) "Output for the Storage Capacitor or Battery. A large capacitor may be connected from this pin to GND for powering the system in the event the input voltage is lost. It will be charged up to the maximum VAUX clamp voltage. If (See Datasheet)", 3 VOUT (power) "Main Output of the Converter. The voltage at this pin is regulated to the voltage selected by VS1 and VS2 (see Table 1). Connect this pin to an energy storage capacitor or to a rechargeable battery.", 4 VOUT2 (power) "Switched Output of the Converter. Connect this pin to a switched load. This output is open until VOUT2_EN is driven high, then it is connected to VOUT through a 1.3 ohm P-channel switch. If not used, this pin should be left (See Datasheet)", 5 VLDO (power) "Output of the 2.2V LDO. Connect a 2.2uF or larger ceramic capacitor from this pin to GND. If not used, this pin should be tied to VAUX.", 6 PGD (oc) "Power Good Output. When VOUT is within 7.5% of its programmed value, PGD will be pulled up to VLDO through a 1Mohm resistor. If VOUT drops 9% below its programmed value PGD will go low. This pin can sink up to 100uA.", 7 VS2 (in) "VOUT Select Pin 2. Connect this pin to ground or VAUX to program the output voltage (see Table 1).", 8 VS1 (in) "VOUT Select Pin 1. Connect this pin to ground or VAUX to program the output voltage (see Table 1).", 9 VOUT2_EN (in) "Enable Input for VOUT2. VOUT2 will be enabled when this pin is driven high. There is an internal 5M pull-down resistor on this pin. If not used, this pin can be left open or grounded.", 10 C1 (power) "Input to the Charge Pump and Rectifier Circuit. Connect a capacitor from this pin to the secondary winding of the step-up transformer.", 11 C2 (in) "Input to the N-Channel Gate Drive Circuit. Connect a capacitor from this pin to the secondary winding of the step-up transformer.", 12 SW (power) "Drain of the Internal N-Channel Switch. Connect this pin to the primary winding of the transformer.", 13 EP (power) "Ground. The DFN exposed pad must be soldered to the PCB ground plane. It serves as the ground connection, and as a means of conducting heat away from the die."